# Altium schematic symbol library DT13-2P.SchLib: 1 symbol
Pins are listed as number, name and electrical type; pins without a type are passive.

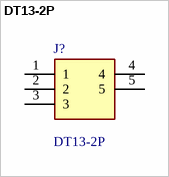
[diagram p0: symbol DT13-2P]

## DT13-2P
designator J?
Body Features: Primary Product Color Gray | Configuration Features: Number of Sections 1 | PCB Mount Orientation Right Angle | Number of Positions 2 | Number of Signal Positions 2 | Number of Rows 1 | Contact Features: Contact Type Pin | Mating Pin Diameter 1.59 MM | Contact Mating Area Plating Material Nickel | Contact Current Rating (Max) 13 AMP | Mating Pin Diameter .063 INCH | Contact Size Size 16 | Dimensions: Connector Width 35.31 MM | Profile Height from PCB 1.08 INCH | PCB Thickness (Recommended) .0; Manufacturer_Name: TE Connectivity; Geometry.Height: 27.43mm; Manufacturer_Part_Number: DT13-2P; Mouser Part Number: 571-DT13-2P; Mouser Price/Stock: https://www.mouser.co.uk/ProductDetail/TE-Connectivity-DEUTSCH/DT13-2P?qs=vkMqrgFpRaiZ8Y45n18x4A%3D%3D; Arrow Part Number: DT13-2P; Arrow Price/Stock: https://www.arrow.com/en/products/dt13-2p/te-connectivity; Datasheet Link: https://www.te.com/commerce/DocumentDelivery/DDEController?Action=srchrtrv&DocNm=1-1773962-8&DocType=Data%20Sheet&DocLang=English&PartCntxt=DT13-2P&DocFormat=pdf
footprint DT132P
pins: 1, 2, 3, 4, 5